# Altium footprint library SWPA系列电感.PcbLib: 21 footprints (part 2 of 2)
Each footprint in its own frame and in the unit in brackets; x right, y up, seen from the top. Pads: shape width x height; smd on the part's side, far side on the other; paste and mask are expansions set on the pad; w line width, h text height; cw(c..) or ccw(c..) is an arc to the next point about the centre after c.
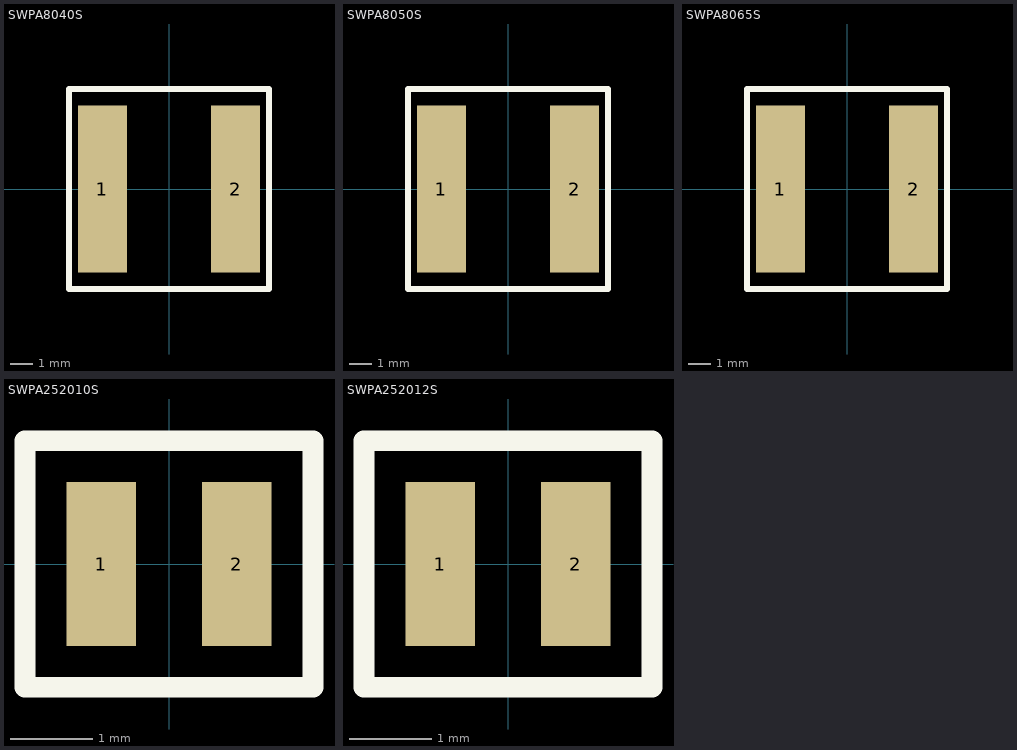
[diagram p1: the footprints below, top view; thin cyan lines are the x and y axes]

## SWPA8040S [mm] "轮廓8mm*8mm ，焊盘间距3.8mm（蒜米工坊）"
height 4
pads (2):
  rect 2.2x7.5 smd: 1(-3,0) 2(3,0)
Top Overlay:
  lines w0.254: -4.5,-4.5 4.5,-4.5 4.5,4.5 0,4.5 -4.5,4.5 -4.5,-4.5
3D body "8040.STEP": height 4, standoff -0.02, extent -4,-4 4,4

## SWPA8050S [mm] "轮廓8mm*8mm ，焊盘间距3.8mm（蒜米工坊）"
height 5
pads (2):
  rect 2.2x7.5 smd: 1(-3,0) 2(3,0)
Top Overlay:
  lines w0.254: -4.5,-4.5 -4.5,4.5 0,4.5 4.5,4.5 4.5,-4.5 -4.5,-4.5
3D body "8050.STEP": height 5, standoff -0.02, extent -4,-4 4,4

## SWPA8065S [mm] "轮廓8mm*8mm ，焊盘间距3.8mm（蒜米工坊）"
height 6.5
pads (2):
  rect 2.2x7.5 smd: 1(-3,0) 2(3,0)
Top Overlay:
  lines w0.254: -4.5,-4.5 -4.5,4.5 0,4.5 4.5,4.5 4.5,-4.5 -4.5,-4.5
3D body "8065.STEP": height 6.5, standoff -0.02, extent -4,-4 4,4

## SWPA252010S [mm] "轮廓2.5mm*2mm ，焊盘间距0.8mm（蒜米工坊）"
height 1
pads (2):
  rect 0.85x2 smd: 1(-0.825,0) 2(0.825,0)
Top Overlay:
  lines w0.254: -1.75,-1.5 -1.75,1.5 0,1.5 1.75,1.5 1.75,-1.5 -1.75,-1.5
3D body "252010.STEP": height 1, standoff -0.02, extent -1.25,-1.25 1.25,1.25

## SWPA252012S [mm] "轮廓2.5mm*2mm ，焊盘间距0.8mm（蒜米工坊）"
height 1.2
pads (2):
  rect 0.85x2 smd: 1(-0.825,0) 2(0.825,0)
Top Overlay:
  lines w0.254: -1.75,-1.5 -1.75,1.5 0,1.5 1.75,1.5 1.75,-1.5 -1.75,-1.5
3D body "252012.STEP": height 1.2, standoff -0.02, extent -1.25,-1.25 1.25,1.25